# Altium footprint library COMPONENTES.PcbLib: 191 footprints (part 4 of 12)
Each footprint in its own frame and in the unit in brackets; x right, y up, seen from the top. Pads: shape width x height; smd on the part's side, far side on the other; paste and mask are expansions set on the pad; w line width, h text height; cw(c..) or ccw(c..) is an arc to the next point about the centre after c.
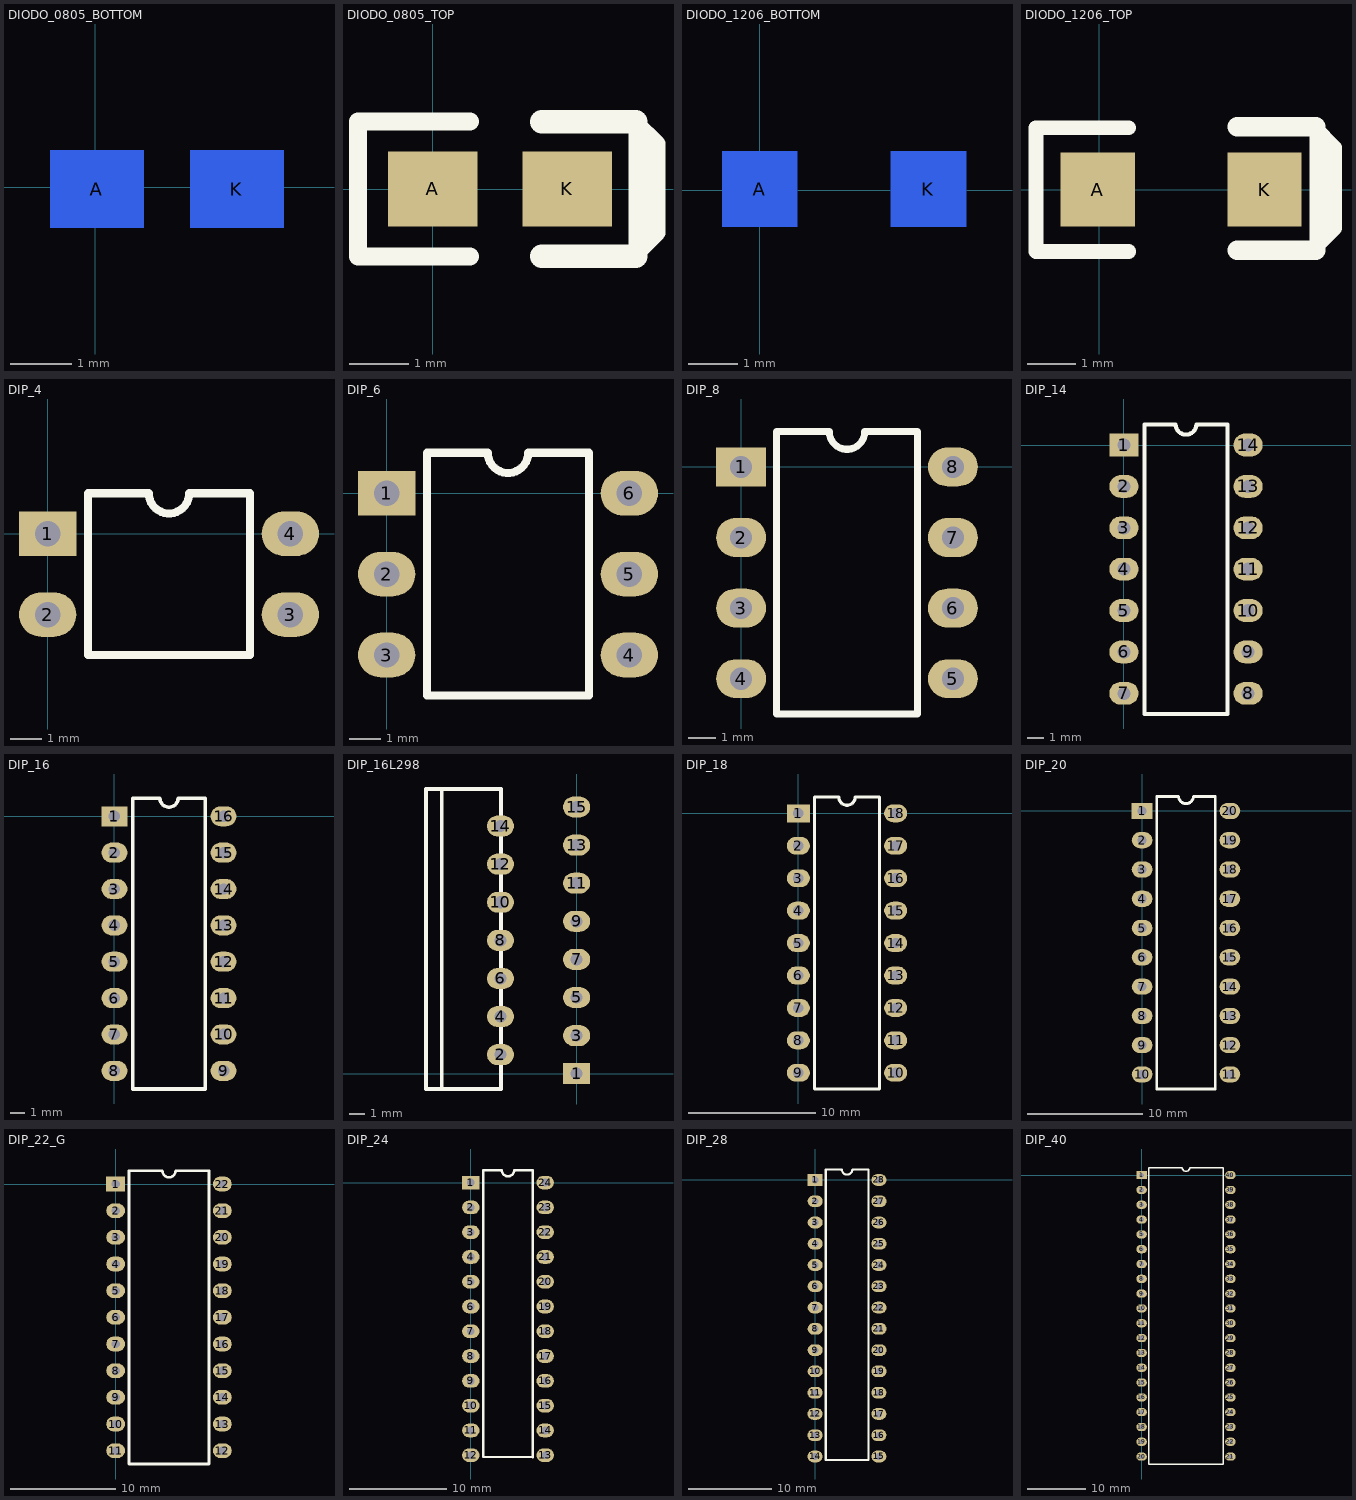
[diagram p3: the footprints below, top view; thin cyan lines are the x and y axes]

## DIODO_0805_BOTTOM [mm]
pads (2):
  rect 1.524x1.27 smd far side: A(0.025,-0.025) K(2.311,-0.025)
Bottom Overlay:
  lines w0.254: 3.275,-1.168 3.275,-1.15 3.65,-0.775 3.65,0.75 3.282,1.118 3.275,1.118 ; 3.275,-1.143 3.275,1.118 ; 3.275,1.118 3.45,0.943 3.45,-0.925 ; 3.45,-0.925 3.45,-0.925
  lines w0.305: 0.66,-1.168 -1.245,-1.168 -1.245,1.118 0.66,1.118
  lines w0.4: 1.676,-1.168 3.275,-1.168 ; 1.676,1.118 3.275,1.118

## DIODO_0805_TOP [mil]
pads (2):
  rect 60x50 smd: A(0,0) K(90,0)
Top Overlay:
  lines w10: 135.83,-45 135.83,-44.29 150.59,-29.53 150.59,30.51 136.1,45 135.83,45 ; 135.83,-44.02 135.83,45 ; 135.83,45 142.72,38.11 142.72,-35.43 ; 142.72,-35.43 142.72,-35.43
  lines w12: 25,-45 -50,-45 -50,45 25,45
  lines w15.75: 72.87,-45 135.83,-45 ; 72.87,45 135.83,45

## DIODO_1206_BOTTOM [mil]
pads (2):
  rect 60x60 smd far side: A(0,0.98) K(135,0.98)
Bottom Overlay:
  lines w10: 172.24,50.98 173.03,50.98 189.76,34.25 189.76,-31.5 173.23,-48.03 ; 173.23,-49.02 173.23,-48.03 ; 173.23,-40.35 181.1,-32.48 181.1,39.37 ; 173.23,50.98 173.23,-48.03
  lines w12: 25,-49.02 -50,-49.02 -50,50.98 25,50.98
  lines w15.75: 110,-49.02 173.23,-49.02 ; 110,50.98 173.23,50.98

## DIODO_1206_TOP [mil]
pads (2):
  rect 60x60 smd: A(-0.98,0) K(134.02,0)
Top Overlay:
  lines w10: 174.21,50.98 175,50.98 191.73,34.25 191.73,-31.5 175.2,-48.03 ; 175.2,-49.02 175.2,-48.03 ; 175.2,-40.35 183.07,-32.48 183.07,39.37 ; 175.2,50.98 175.2,-48.03
  lines w12: 24.02,-50 -50.98,-50 -50.98,50 24.02,50
  lines w15.75: 111.97,-49.02 175.2,-49.02 ; 111.97,50.98 175.2,50.98

## DIP_4 [mm]
height 2.65
pads (4):
  rect 1.8x1.4 hole 0.8: 1(0,0)
  oval 1.8x1.4 hole 0.8: 2(0,-2.54) 3(7.62,-2.54) 4(7.62,0)
Top Overlay:
  lines w0.254: 1.27,-3.81 1.27,1.27 3.175,1.27 ccw(c3.81,1.27) 4.445,1.27 6.35,1.27 6.35,-3.81 1.27,-3.81

## DIP_6 [mm]
height 2.65
pads (6):
  rect 1.8x1.4 hole 0.8: 1(0,0)
  oval 1.8x1.4 hole 0.8: 2(0,-2.54) 3(0,-5.08) 4(7.62,-5.08) 5(7.62,-2.54) 6(7.62,0)
Top Overlay:
  lines w0.254: 1.27,-6.35 6.35,-6.35 6.35,1.27 4.445,1.27 cw(c3.81,1.27) 3.175,1.27 1.27,1.27 1.27,-6.35

## DIP_8 [mm]
height 2.65
pads (8):
  rect 1.8x1.4 hole 0.8: 1(0,0)
  oval 1.8x1.4 hole 0.8: 2(0,-2.54) 3(0,-5.08) 4(0,-7.62) 5(7.62,-7.62) 6(7.62,-5.08) 7(7.62,-2.54) 8(7.62,0)
Top Overlay:
  lines w0.254: 1.27,-8.89 1.27,1.27 3.175,1.27 ccw(c3.81,1.27) 4.445,1.27 6.35,1.27 6.35,-8.89 1.27,-8.89

## DIP_14 [mm]
height 2.65
pads (14):
  rect 1.8x1.4 hole 0.8: 1(0,0)
  oval 1.8x1.4 hole 0.8: 2(0,-2.54) 3(0,-5.08) 4(0,-7.62) 5(0,-10.16) 6(0,-12.7) 7(0,-15.24) 8(7.62,-15.24) 9(7.62,-12.7) 10(7.62,-10.16) 11(7.62,-7.62) 12(7.62,-5.08) 13(7.62,-2.54) 14(7.62,0)
Top Overlay:
  lines w0.254: 1.27,-16.51 1.27,1.27 3.175,1.27 ccw(c3.81,1.27) 4.445,1.27 6.35,1.27 6.35,-16.51 1.27,-16.51

## DIP_16 [mm]
height 2.65
pads (16):
  rect 1.8x1.4 hole 0.8: 1(0,0)
  oval 1.8x1.4 hole 0.8: 2(0,-2.54) 3(0,-5.08) 4(0,-7.62) 5(0,-10.16) 6(0,-12.7) 7(0,-15.24) 8(0,-17.78) 9(7.62,-17.78) 10(7.62,-15.24) 11(7.62,-12.7) 12(7.62,-10.16) 13(7.62,-7.62) 14(7.62,-5.08) 15(7.62,-2.54) 16(7.62,0)
Top Overlay:
  lines w0.254: 1.27,-19.05 6.35,-19.05 6.35,1.27 4.445,1.27 cw(c3.81,1.27) 3.175,1.27 1.27,1.27 1.27,-19.05

## DIP_16L298 [mm]
height 2.65
pads (15):
  rect 1.8x1.4 hole 0.8: 1(0,0)
  oval 1.8x1.4 hole 0.8: 2(-5.08,1.27) 3(0,2.54) 4(-5.08,3.81) 5(0,5.08) 6(-5.08,6.35) 7(0,7.62) 8(-5.08,8.89) 9(0,10.16) 10(-5.08,11.43) 11(0,12.7) 12(-5.08,13.97) 13(0,15.24) 14(-5.08,16.51) 15(0,17.78)
Top Overlay:
  lines w0.25: -9,-1.02 -9,18.93 ; -10.05,-1.02 -5.05,-1.02 -5.05,18.98 -10.05,18.98 -10.05,-1.02

## DIP_18 [mm]
height 2.65
pads (18):
  rect 1.8x1.4 hole 0.8: 1(0,0)
  oval 1.8x1.4 hole 0.8: 2(0,-2.54) 3(0,-5.08) 4(0,-7.62) 5(0,-10.16) 6(0,-12.7) 7(0,-15.24) 8(0,-17.78) 9(0,-20.32) 10(7.62,-20.32) 11(7.62,-17.78) 12(7.62,-15.24) 13(7.62,-12.7) 14(7.62,-10.16) 15(7.62,-7.62) 16(7.62,-5.08) 17(7.62,-2.54) 18(7.62,0)
Top Overlay:
  lines w0.254: 1.27,-21.59 6.35,-21.59 6.35,1.27 4.445,1.27 cw(c3.81,1.27) 3.175,1.27 1.27,1.27 1.27,-21.59

## DIP_20 [mm]
height 2.65
pads (20):
  rect 1.8x1.4 hole 0.8: 1(0,0)
  oval 1.8x1.4 hole 0.8: 2(0,-2.54) 3(0,-5.08) 4(0,-7.62) 5(0,-10.16) 6(0,-12.7) 7(0,-15.24) 8(0,-17.78) 9(0,-20.32) 10(0,-22.86) 11(7.62,-22.86) 12(7.62,-20.32) 13(7.62,-17.78) 14(7.62,-15.24) 15(7.62,-12.7) 16(7.62,-10.16) 17(7.62,-7.62) 18(7.62,-5.08) 19(7.62,-2.54) 20(7.62,0)
Top Overlay:
  lines w0.254: 1.27,-24.13 6.35,-24.13 6.35,1.27 4.445,1.27 cw(c3.81,1.27) 3.175,1.27 1.27,1.27 1.27,-24.13

## DIP_22_G [mm]
height 2.65
pads (22):
  rect 1.8x1.4 hole 0.8: 1(0,0)
  oval 1.8x1.4 hole 0.8: 2(0,-2.54) 3(0,-5.08) 4(0,-7.62) 5(0,-10.16) 6(0,-12.7) 7(0,-15.24) 8(0,-17.78) 9(0,-20.32) 10(0,-22.86) 11(0,-25.4) 12(10.16,-25.4) 13(10.16,-22.86) 14(10.16,-20.32) 15(10.16,-17.78) 16(10.16,-15.24) 17(10.16,-12.7) 18(10.16,-10.16) 19(10.16,-7.62) 20(10.16,-5.08) 21(10.16,-2.54) 22(10.16,0)
Top Overlay:
  lines w0.254: 1.27,-26.67 1.27,1.27 4.445,1.27 ccw(c5.08,1.27) 5.715,1.27 8.89,1.27 8.89,-26.67 1.27,-26.67

## DIP_24 [mm]
pads (24):
  rect 1.8x1.4 hole 0.8: 1(0,0)
  oval 1.8x1.4 hole 0.8: 2(0,-2.54) 3(0,-5.08) 4(0,-7.62) 5(0,-10.16) 6(0,-12.7) 7(0,-15.24) 8(0,-17.78) 9(0,-20.32) 10(0,-22.86) 11(0,-25.4) 12(0,-27.94) 13(7.62,-27.94) 14(7.62,-25.4) 15(7.62,-22.86) 16(7.62,-20.32) 17(7.62,-17.78) 18(7.62,-15.24) 19(7.62,-12.7) 20(7.62,-10.16) 21(7.62,-7.62) 22(7.62,-5.08) 23(7.62,-2.54) 24(7.62,0)
Top Overlay:
  lines w0.254: 1.27,1.27 3.175,1.27 ccw(c3.81,1.27) 4.445,1.27 6.35,1.27 ; 1.27,1.27 1.275,-28.1 ; 1.27,1.27 1.275,-28.1 ; 1.275,-28.1 6.35,-28.13 ; 1.275,-28.1 6.35,-28.13 ; 6.35,-28.13 6.35,1.27 ; 6.35,-28.13 6.35,1.27

## DIP_28 [mm]
height 2.65
pads (28):
  rect 1.8x1.4 hole 0.8: 1(0,0)
  oval 1.8x1.4 hole 0.8: 2(0,-2.54) 3(0,-5.08) 4(0,-7.62) 5(0,-10.16) 6(0,-12.7) 7(0,-15.24) 8(0,-17.78) 9(0,-20.32) 10(0,-22.86) 11(-0.012,-25.4) 12(-0.012,-27.94) 13(-0.012,-30.48) 14(-0.012,-33.02) 15(7.613,-33.02) 16(7.613,-30.48) 17(7.613,-27.94) 18(7.613,-25.4) 19(7.62,-22.86) 20(7.62,-20.32) 21(7.62,-17.78) 22(7.62,-15.24) 23(7.62,-12.7) 24(7.62,-10.16) 25(7.62,-7.62) 26(7.62,-5.08) 27(7.62,-2.54) 28(7.62,0)
Top Overlay:
  lines w0.254: 1.27,-33.43 1.27,1.27 3.175,1.27 ccw(c3.81,1.27) 4.445,1.27 6.35,1.27 6.35,-33.43 1.27,-33.43

## DIP_40 [mm]
height 2.65
pads (40):
  rect 1.8x1.4 hole 0.8: 1(0,0)
  oval 1.8x1.4 hole 0.8: 2(0,-2.54) 3(0,-5.08) 4(0,-7.62) 5(0,-10.16) 6(0,-12.7) 7(0,-15.24) 8(0,-17.78) 9(0,-20.32) 10(0,-22.86) 11(0,-25.4) 12(0,-27.94) 13(0,-30.48) 14(0,-33.02) 15(0,-35.56) 16(0,-38.1) 17(0,-40.64) 18(0,-43.18) 19(0,-45.72) 20(0,-48.26) 21(15.24,-48.26) 22(15.24,-45.72) 23(15.24,-43.18) 24(15.24,-40.64) 25(15.24,-38.1) 26(15.24,-35.56) 27(15.24,-33.02) 28(15.24,-30.48) 29(15.24,-27.94) 30(15.24,-25.4) 31(15.24,-22.86) 32(15.24,-20.32) 33(15.24,-17.78) 34(15.24,-15.24) 35(15.24,-12.7) 36(15.24,-10.16) 37(15.24,-7.62) 38(15.24,-5.08) 39(15.24,-2.54) 40(15.24,0)
Top Overlay:
  lines w0.254: 1.27,-49.53 13.97,-49.53 13.97,1.27 8.255,1.27 cw(c7.62,1.27) 6.985,1.27 1.27,1.27 1.27,-49.53